# EAGLE library part UART-CP2102 (library ds_ic_peripherals)
SINGLE-CHIP USB TO UART BRIDGE
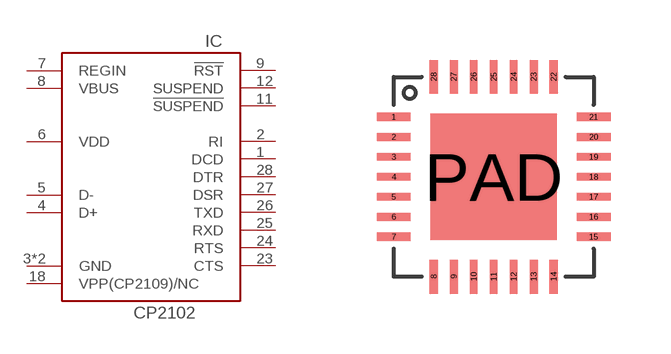
[diagram p71: symbol with the pads of QFN28; footprint QFN28]

Designator prefix IC

## UART-CP2102*  [QFN28]
1  DCD
2  RI
3  GND
4  D+
5  D-
6  VDD
7  REGIN
8  VBUS
9  !RST
11  !SUSPEND
12  SUSPEND
18  VPP(CP2109)/NC
23  CTS
24  RTS
25  RXD
26  TXD
27  DSR
28  DTR
PAD  GND

## Footprint QFN28 (pad centres in mm)
smd 0.85 x 0.2: 1 -2.5,1.5; 2 -2.5,1; 3 -2.5,0.5; 4 -2.5,0; 5 -2.5,-0.5; 6 -2.5,-1; 7 -2.5,-1.5; 15 2.5,-1.5; 16 2.5,-1; 17 2.5,-0.5; 18 2.5,0; 19 2.5,0.5; 20 2.5,1; 21 2.5,1.5
smd 0.2 x 0.85: 8 -1.5,-2.5; 9 -1,-2.5; 10 -0.5,-2.5; 11 0,-2.5; 12 0.5,-2.5; 13 1,-2.5; 14 1.5,-2.5; 22 1.5,2.5; 23 1,2.5; 24 0.5,2.5; 25 0,2.5; 26 -0.5,2.5; 27 -1,2.5; 28 -1.5,2.5
smd 3.15 x 3.15: PAD 0,0